# Altium schematic symbol library SMA_1Pin_Connector.Schlib: 1 symbol
Pins are listed as number, name and electrical type; pins without a type are passive.

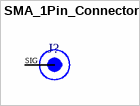
[diagram p0: symbol SMA_1Pin_Connector]

## SMA_1Pin_Connector
designator J?
Single Pin SMA RF Connector
pins: 1 SIG